# Altium footprint library C0603 - MURATA.PcbLib: 1 footprints
Each footprint in its own frame and in the unit in brackets; x right, y up, seen from the top. Pads: shape width x height; smd on the part's side, far side on the other; paste and mask are expansions set on the pad; w line width, h text height; cw(c..) or ccw(c..) is an arc to the next point about the centre after c.
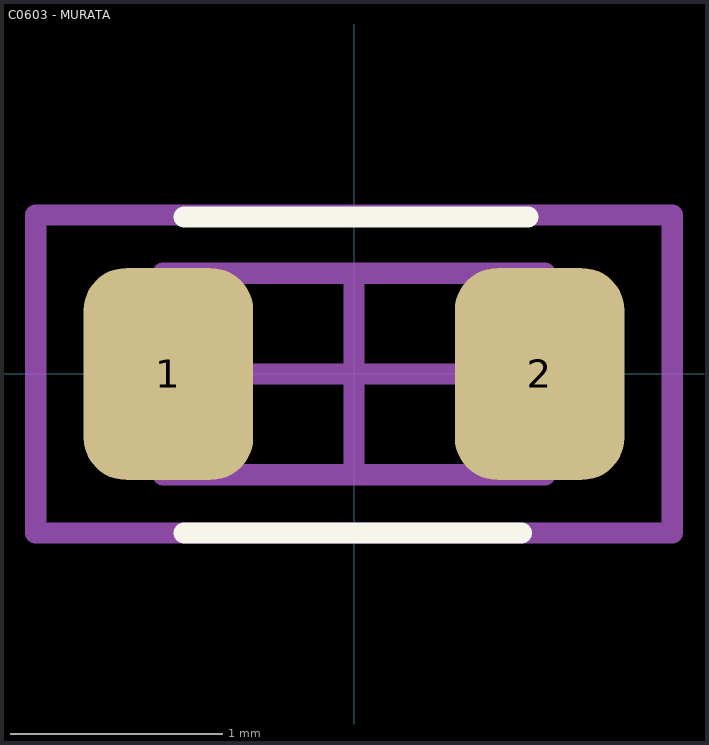
[diagram p0: the footprint, top view; thin cyan lines are the x and y axes]

## C0603 - MURATA [mm] "Chip Capacitor, 2-Leads, Body 1,60x0,80mm, IPC Medium Density"
height 0.95
pads (2):
  rrect50% 0.8x1 smd: 1(-0.875,0) 2(0.875,0)
Top Overlay:
  lines w0.1: -0.8,-0.75 0.79,-0.75 ; -0.8,0.74 0.82,0.74
Mechanical 13:
  lines w0.1: -0.9,-0.475 0.9,-0.475 0.9,0.475 -0.9,0.475 -0.9,-0.475
Mechanical 15:
  lines w0.1: -0.475,0 0.475,0 ; 0,-0.475 0,0.475 ; -1.5,-0.75 1.5,-0.75 1.5,0.75 -1.5,0.75 -1.5,-0.75
Top Designator:
  text ".Designator" at -1.3,-0.083 h0.25
3D body "GCJ188R72A104KA01D.stp": height 0.78, standoff -0.02, extent -0.75,-0.45 0.85,0.45